# Altium schematic symbol library USBLC6-2P6.SchLib: 1 symbol
Pins are listed as number, name and electrical type; pins without a type are passive.

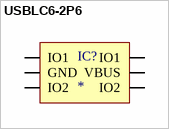
[diagram p0: symbol USBLC6-2P6]

## USBLC6-2P6
designator IC?
footprint SOT666
pins: 1 IO1, 2 GND, 3 IO2, 4 IO2, 5 VBUS, 6 IO1